# EAGLE library part TEMPLATE_3X4_HEADER_CLUSTER (library voltera_community_lib)
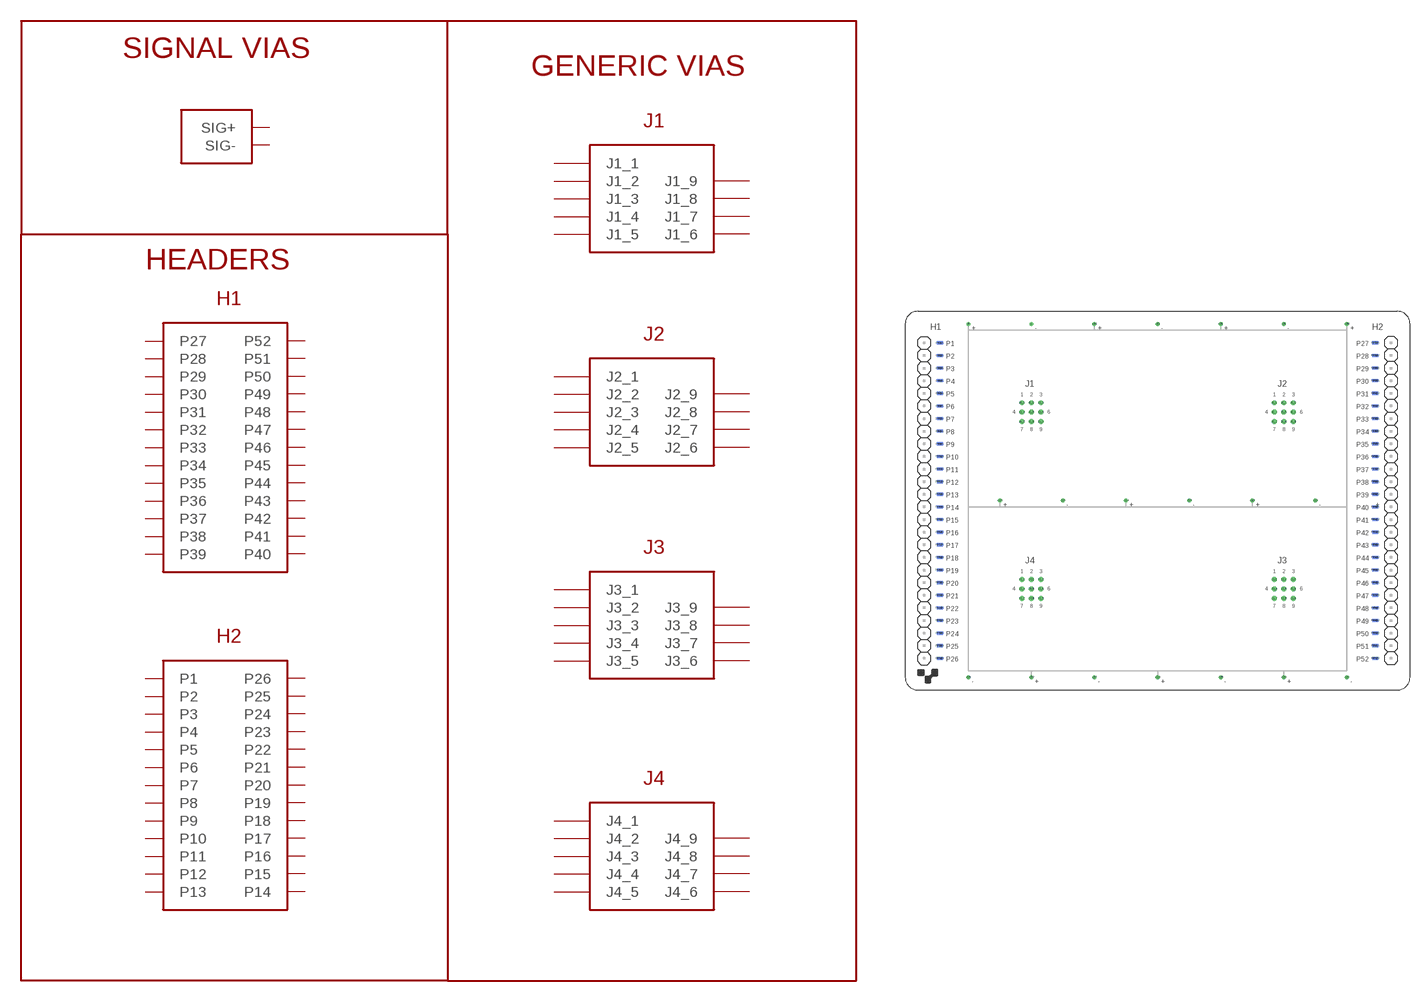
[diagram p6: symbol with the pads of 3X4_HEADER_CLUSTER; footprint 3X4_HEADER_CLUSTER]

Designator prefix -

## TEMPLATE_3X4_HEADER_CLUSTER_TEMPLATE  [3X4_HEADER_CLUSTER]
+  SIG+
+@1  SIG+
+@2  SIG+
+@3  SIG+
+@4  SIG+
+@5  SIG+
+@6  SIG+
+@7  SIG+
+@8  SIG+
+@9  SIG+
-  SIG-
-@1  SIG-
-@2  SIG-
-@3  SIG-
-@4  SIG-
-@5  SIG-
-@6  SIG-
-@7  SIG-
-@8  SIG-
-@9  SIG-
J1_1  J1_1
J1_2  J1_2
J1_3  J1_3
J1_4  J1_4
J1_5  J1_5
J1_6  J1_6
J1_7  J1_7
J1_8  J1_8
J1_9  J1_9
J2_1  J2_1
J2_2  J2_2
J2_3  J2_3
J2_4  J2_4
J2_5  J2_5
J2_6  J2_6
J2_7  J2_7
J2_8  J2_8
J2_9  J2_9
J3_1  J3_1
J3_2  J3_2
J3_3  J3_3
J3_4  J3_4
J3_5  J3_5
J3_6  J3_6
J3_7  J3_7
J3_8  J3_8
J3_9  J3_9
J4_1  J4_1
J4_2  J4_2
J4_3  J4_3
J4_4  J4_4
J4_5  J4_5
J4_6  J4_6
J4_7  J4_7
J4_8  J4_8
J4_9  J4_9
P1  P1
P1@1  P1
P2  P2
P2@1  P2
P3  P3
P3@1  P3
P4  P4
P4@1  P4
P5  P5
P5@1  P5
P6  P6
P6@1  P6
P7  P7
P7@1  P7
P8  P8
P8@1  P8
P9  P9
P9@1  P9
P10  P10
P10@1  P10
P11  P11
P11@1  P11
P12  P12
P12@1  P12
P13  P13
P13@1  P13
P14  P14
P14@1  P14
P15  P15
P15@1  P15
P16  P16
P16@1  P16
P17  P17
P17@1  P17
P18  P18
P18@1  P18
P19  P19
P19@1  P19
P20  P20
P20@1  P20
P21  P21
P21@1  P21
P22  P22
P22@1  P22
P23  P23
P23@1  P23
P24  P24
P24@1  P24
P25  P25
P25@1  P25
P26  P26
P26@1  P26
P27  P27
P27@1  P27
P28  P28
P28@1  P28
P29  P29
P29@1  P29
P30  P30
P30@1  P30
P31  P31
P31@1  P31
P32  P32
P32@1  P32
P33  P33
P33@1  P33
P34  P34
P34@1  P34
P35  P35
P35@1  P35
P36  P36
P36@1  P36
P37  P37
P37@1  P37
P38  P38
P38@1  P38
P39  P39
P39@1  P39
P40  P40
P40@1  P40
P41  P41
P41@1  P41
P42  P42
P42@1  P42
P43  P43
P43@1  P43
P44  P44
P44@1  P44
P45  P45
P45@1  P45
P46  P46
P46@1  P46
P47  P47
P47@1  P47
P48  P48
P48@1  P48
P49  P49
P49@1  P49
P50  P50
P50@1  P50
P51  P51
P51@1  P51
P52  P52
P52@1  P52

## Footprint 3X4_HEADER_CLUSTER (pad centres in mm)
drill 0.3 pad 0.8: + 12.7,73.66; +@1 38.1,73.66; +@2 63.5,73.66; +@3 19.05,38.1; +@4 44.45,38.1; +@5 69.85,38.1; +@6 88.9,73.66; +@7 25.4,2.54; +@8 50.8,2.54; +@9 76.2,2.54; - 25.4,73.66; -@1 50.8,73.66; -@2 76.2,73.66; -@3 82.55,38.1; -@4 57.15,38.1; -@5 31.75,38.1; -@6 12.7,2.54; -@7 38.1,2.54; -@8 63.5,2.54; -@9 88.9,2.54
drill 0.3 pad 1: J1_1 23.495,57.785; J1_2 25.4,57.785; J1_3 27.305,57.785; J1_4 23.495,55.88; J1_5 25.4,55.88; J1_6 27.305,55.88; J1_7 23.495,53.975; J1_8 25.4,53.975; J1_9 27.305,53.975; J2_1 76.2,57.785; J2_2 74.295,57.785; J2_3 78.105,57.785; J2_4 74.295,55.88; J2_5 76.2,55.88; J2_6 78.105,55.88; J2_7 74.295,53.975; J2_8 76.2,53.975; J2_9 78.105,53.975; J3_1 74.295,22.225; J3_2 76.2,22.225; J3_3 78.105,22.225; J3_4 74.295,20.32; J3_5 76.2,20.32; J3_6 78.105,20.32; J3_7 74.295,18.415; J3_8 76.2,18.415; J3_9 78.105,18.415; J4_1 23.495,22.225; J4_2 25.4,22.225; J4_3 27.305,22.225; J4_4 23.495,20.32; J4_5 25.4,20.32; J4_6 27.305,20.32; J4_7 23.495,18.415; J4_8 25.4,18.415; J4_9 27.305,18.415
smd 1.27 x 0.635: P1 6.985,69.85; P2 6.985,67.31; P3 6.985,64.77; P4 6.985,62.23; P5 6.985,59.69; P6 6.985,57.15; P7 6.985,54.61; P8 6.985,52.07; P9 6.985,49.53; P10 6.985,46.99; P11 6.985,44.45; P12 6.985,41.91; P13 6.985,39.37; P14 6.985,36.83; P15 6.985,34.29; P16 6.985,31.75; P17 6.985,29.21; P18 6.985,26.67; P19 6.985,24.13; P20 6.985,21.59; P21 6.985,19.05; P22 6.985,16.51; P23 6.985,13.97; P24 6.985,11.43; P25 6.985,8.89; P26 6.985,6.35; P27 94.615,69.85; P28 94.615,67.31; P29 94.615,64.77; P30 94.615,62.23; P31 94.615,59.69; P32 94.615,57.15; P33 94.615,54.61; P34 94.615,52.07; P35 94.615,49.53; P36 94.615,46.99; P37 94.615,44.45; P38 94.615,41.91; P39 94.615,39.37; P40 94.615,36.83; P41 94.615,34.29; P42 94.615,31.75; P43 94.615,29.21; P44 94.615,26.67; P45 94.615,24.13; P46 94.615,21.59; P47 94.615,19.05; P48 94.615,16.51; P49 94.615,13.97; P50 94.615,11.43; P51 94.615,8.89; P52 94.615,6.35
smd 1.27 x 0.635 bottom: P1@1 6.985,69.85; P2@1 6.985,67.31; P3@1 6.985,64.77; P4@1 6.985,62.23; P5@1 6.985,59.69; P6@1 6.985,57.15; P7@1 6.985,54.61; P8@1 6.985,52.07; P9@1 6.985,49.53; P10@1 6.985,46.99; P11@1 6.985,44.45; P12@1 6.985,41.91; P13@1 6.985,39.37; P14@1 6.985,36.83; P15@1 6.985,34.29; P16@1 6.985,31.75; P17@1 6.985,29.21; P18@1 6.985,26.67; P19@1 6.985,24.13; P20@1 6.985,21.59; P21@1 6.985,19.05; P22@1 6.985,16.51; P23@1 6.985,13.97; P24@1 6.985,11.43; P25@1 6.985,8.89; P26@1 6.985,6.35; P27@1 94.615,69.85; P28@1 94.615,67.31; P29@1 94.615,64.77; P30@1 94.615,62.23; P31@1 94.615,59.69; P32@1 94.615,57.15; P33@1 94.615,54.61; P34@1 94.615,52.07; P35@1 94.615,49.53; P36@1 94.615,46.99; P37@1 94.615,44.45; P38@1 94.615,41.91; P39@1 94.615,39.37; P40@1 94.615,36.83; P41@1 94.615,34.29; P42@1 94.615,31.75; P43@1 94.615,29.21; P44@1 94.615,26.67; P45@1 94.615,24.13; P46@1 94.615,21.59; P47@1 94.615,19.05; P48@1 94.615,16.51; P49@1 94.615,13.97; P50@1 94.615,11.43; P51@1 94.615,8.89; P52@1 94.615,6.35